# EAGLE library part IM8088B-LURA (library lurawan)
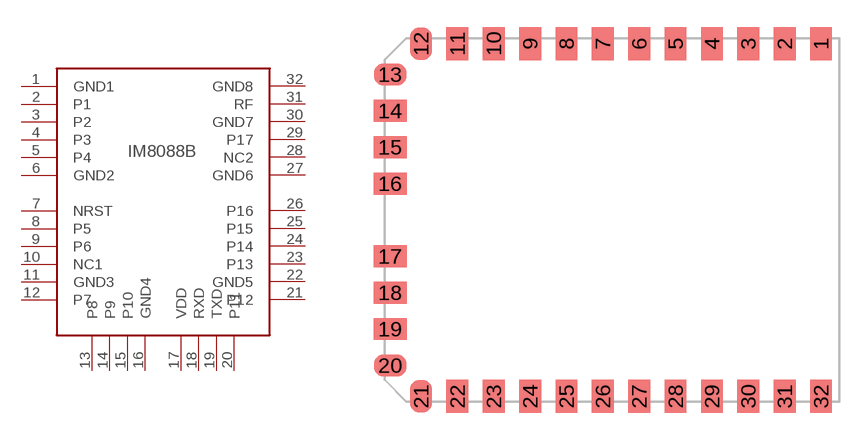
[diagram p0: symbol with the pads of LURA; footprint LURA]

Designator prefix -

## IM8088B-LURA  [LURA]
1  GND1
2  P1
3  P2
4  P3
5  P4
6  GND2
7  NRST
8  P5
9  P6
10  NC1
11  GND3
12  P7
13  P8
14  P9
15  P10
16  GND4
17  VDD
18  RXD
19  TXD
20  P11
21  P12
22  GND5
23  P13
24  P14
25  P15
26  P16
27  GND6
28  NC2
29  P17
30  GND7
31  RF
32  GND8

## Footprint LURA (pad centres in mm)
smd 1.2 x 1.8: 1 11,9.7; 2 9,9.7; 3 7,9.7; 4 5,9.7; 5 3,9.7; 6 1,9.7; 7 -1,9.7; 8 -3,9.7; 9 -5,9.7; 10 -7,9.7; 11 -9,9.7; 12 -11,9.7; 21 -11,-9.7; 22 -9,-9.7; 23 -7,-9.7; 24 -5,-9.7; 25 -3,-9.7; 26 -1,-9.7; 27 1,-9.7; 28 3,-9.7; 29 5,-9.7; 30 7,-9.7; 31 9,-9.7; 32 11,-9.7
smd 1.8 x 1.2: 13 -12.7,8; 14 -12.7,6; 15 -12.7,4; 16 -12.7,2; 17 -12.7,-2; 18 -12.7,-4; 19 -12.7,-6; 20 -12.7,-8